# Altium footprint library IPEX Board Conn.PcbLib: 1 footprints
Each footprint in its own frame and in the unit in brackets; x right, y up, seen from the top. Pads: shape width x height; smd on the part's side, far side on the other; paste and mask are expansions set on the pad; w line width, h text height; cw(c..) or ccw(c..) is an arc to the next point about the centre after c.
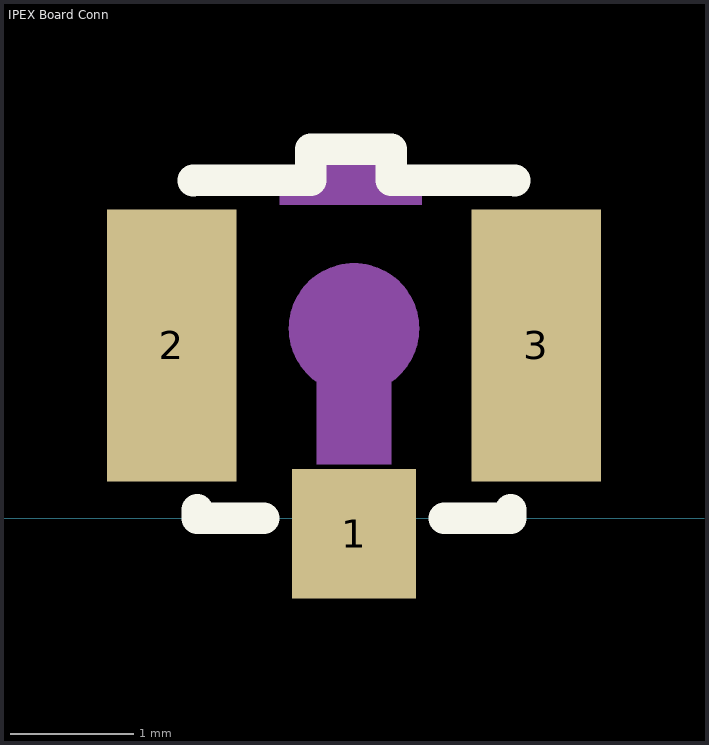
[diagram p0: the footprint, top view; thin cyan lines are the x and y axes]

## IPEX Board Conn [mm] "1 Inner needle IPEX Board Edge 1.25mm -40℃~+90℃ 6GHz 50Ω 2mm SMD RF Connectors / Coaxial Connectors ROHS"
pads (3):
  rect 1x1.05 smd paste+0 mask+0.05: 1(5.2,-0.125)
  rect 1.05x2.2 smd paste+0 mask+0.05: 2(3.725,1.4) 3(6.675,1.4)
Top Overlay:
  lines w0.254: 3.9,2.731 3.9,2.737 4.85,2.737 4.85,2.987 5.5,2.987 5.5,2.737 6.5,2.737 6.5,2.731 ; 3.93,0.069 3.93,0.003 4.469,0.003 ; 5.931,0.003 6.47,0.003 6.47,0.069
Mechanical 15:
  region: 4.9,2.687 4.9,2.937 5.5,2.937 5.5,2.687 5.75,2.687 5.75,2.537 4.6,2.537 4.6,2.687
  region: 5.233,2.064 5.2,2.065 5.167,2.064 5.134,2.06 5.101,2.055 5.069,2.048 5.037,2.039 5.006,2.028 4.976,2.014 4.946,1.999 4.918,1.983 4.89,1.964 4.864,1.944 4.839,1.922 4.816,1.898 4.794,1.874 4.774,1.847 4.755,1.82 4.738,1.792 4.723,1.762 4.71,1.732 4.699,1.7 4.69,1.669 4.682,1.636 4.677,1.604 4.674,1.571 4.673,1.538 4.674,1.505 4.677,1.472 4.682,1.439 4.69,1.407 4.699,1.375 4.71,1.344 4.723,1.313 4.738,1.284 4.755,1.255 4.774,1.228 4.794,1.202 4.816,1.177 4.839,1.153 4.864,1.132 4.89,1.111 4.9,1.105 4.9,0.438 5.5,0.438 5.5,1.105 5.51,1.111 5.536,1.132 5.561,1.153 5.584,1.177 5.606,1.202 5.626,1.228 5.645,1.255 5.662,1.284 5.677,1.313 5.69,1.344 5.701,1.375 5.71,1.407 5.718,1.439 5.723,1.472 5.726,1.505 5.727,1.538 5.726,1.571 5.723,1.604 5.718,1.636 5.71,1.669 5.701,1.7 5.69,1.732 5.677,1.762 5.662,1.792 5.645,1.82 5.626,1.847 5.606,1.874 5.584,1.898 5.561,1.922 5.536,1.944 5.51,1.964 5.482,1.983 5.454,1.999 5.424,2.014 5.394,2.028 5.363,2.039 5.331,2.048 5.299,2.055 5.266,2.06
3D body "IPEX Board Conn.STEP": height 1.25, standoff 0, extent 3.7,-0.175 6.7,2.925